# EAGLE library part 929667-02-36-I (library 3M_By_element14_Batch_1)
Pin Strip Header, Dual row
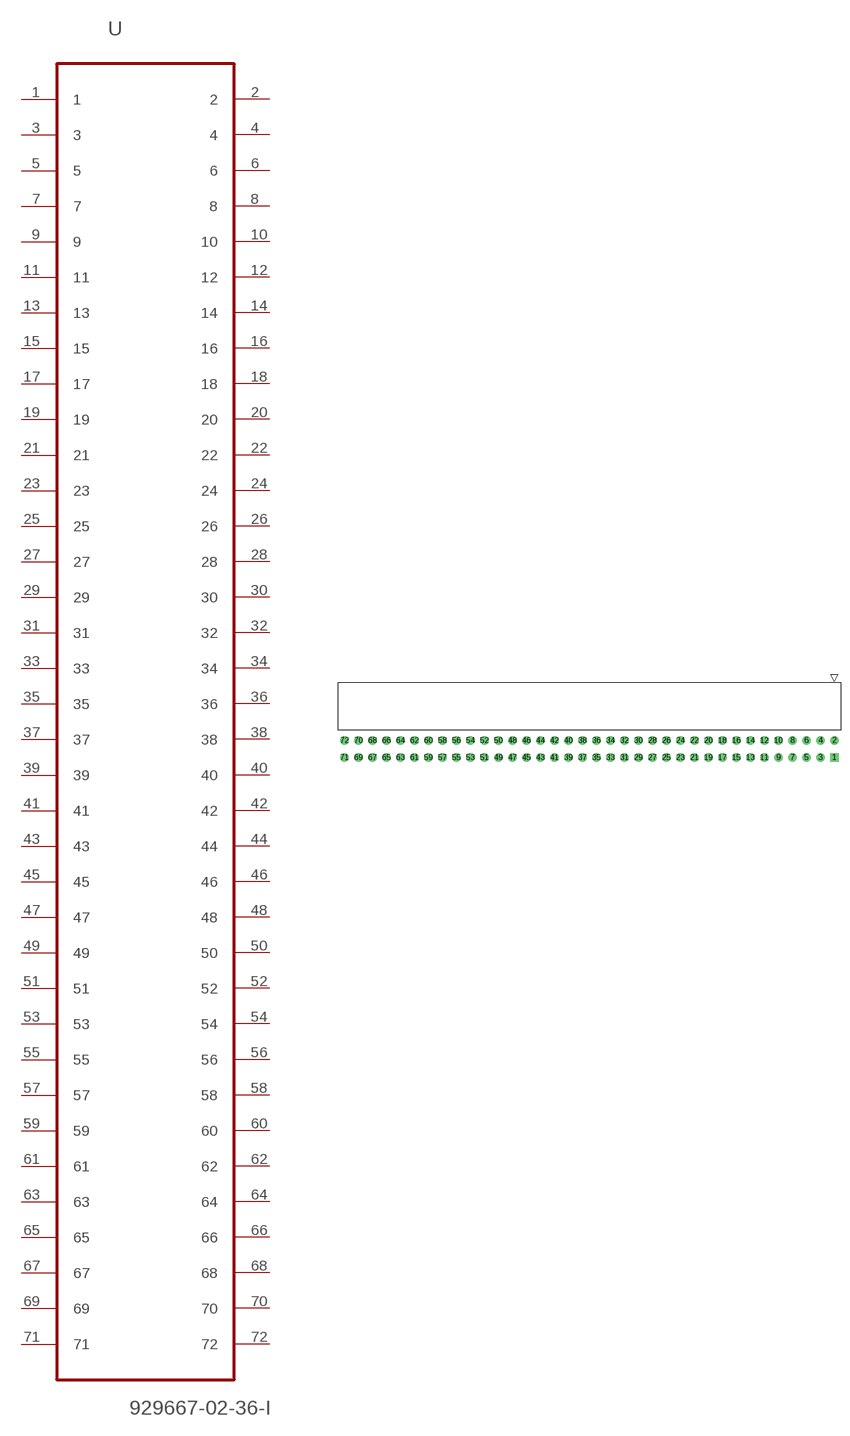
[diagram p81: symbol with the pads of 3M_929667-02-36-I; footprint 3M_929667-02-36-I]

Designator prefix U

## 929667-02-36-I (MPN: 929667-02-36-I; OC_FARNELL: -; OC_NEWARK: 50H6862; PACKAGE: Pin Strip Header, Dual Row, 72 way; SUPPLIER: 3M)  [3M_929667-02-36-I]
1  1  pas
2  2  pas
3  3  pas
4  4  pas
5  5  pas
6  6  pas
7  7  pas
8  8  pas
9  9  pas
10  10  pas
11  11  pas
12  12  pas
13  13  pas
14  14  pas
15  15  pas
16  16  pas
17  17  pas
18  18  pas
19  19  pas
20  20  pas
21  21  pas
22  22  pas
23  23  pas
24  24  pas
25  25  pas
26  26  pas
27  27  pas
28  28  pas
29  29  pas
30  30  pas
31  31  pas
32  32  pas
33  33  pas
34  34  pas
35  35  pas
36  36  pas
37  37  pas
38  38  pas
39  39  pas
40  40  pas
41  41  pas
42  42  pas
43  43  pas
44  44  pas
45  45  pas
46  46  pas
47  47  pas
48  48  pas
49  49  pas
50  50  pas
51  51  pas
52  52  pas
53  53  pas
54  54  pas
55  55  pas
56  56  pas
57  57  pas
58  58  pas
59  59  pas
60  60  pas
61  61  pas
62  62  pas
63  63  pas
64  64  pas
65  65  pas
66  66  pas
67  67  pas
68  68  pas
69  69  pas
70  70  pas
71  71  pas
72  72  pas

## Footprint 3M_929667-02-36-I (pad centres in mm)
drill 1.016 square: 1 88.9,-3.734
drill 1.016: 2 88.9,-0.635; 3 86.36,-3.734; 4 86.36,-0.635; 5 83.82,-3.734; 6 83.82,-0.635; 7 81.28,-3.734; 8 81.28,-0.635; 9 78.74,-3.734; 10 78.74,-0.635; 11 76.2,-3.734; 12 76.2,-0.635; 13 73.66,-3.734; 14 73.66,-0.635; 15 71.12,-3.734; 16 71.12,-0.635; 17 68.58,-3.734; 18 68.58,-0.635; 19 66.04,-3.734; 20 66.04,-0.635; 21 63.5,-3.734; 22 63.5,-0.635; 23 60.96,-3.734; 24 60.96,-0.635; 25 58.42,-3.734; 26 58.42,-0.635; 27 55.88,-3.734; 28 55.88,-0.635; 29 53.34,-3.734; 30 53.34,-0.635; 31 50.8,-3.734; 32 50.8,-0.635; 33 48.26,-3.734; 34 48.26,-0.635; 35 45.72,-3.734; 36 45.72,-0.635; 37 43.18,-3.734; 38 43.18,-0.635; 39 40.64,-3.734; 40 40.64,-0.635; 41 38.1,-3.734; 42 38.1,-0.635; 43 35.56,-3.734; 44 35.56,-0.635; 45 33.02,-3.734; 46 33.02,-0.635; 47 30.48,-3.734; 48 30.48,-0.635; 49 27.94,-3.734; 50 27.94,-0.635; 51 25.4,-3.734; 52 25.4,-0.635; 53 22.86,-3.734; 54 22.86,-0.635; 55 20.32,-3.734; 56 20.32,-0.635; 57 17.78,-3.734; 58 17.78,-0.635; 59 15.24,-3.734; 60 15.24,-0.635; 61 12.7,-3.734; 62 12.7,-0.635; 63 10.16,-3.734; 64 10.16,-0.635; 65 7.62,-3.734; 66 7.62,-0.635; 67 5.08,-3.734; 68 5.08,-0.635; 69 2.54,-3.734; 70 2.54,-0.635; 71 0,-3.734; 72 0,-0.635